# EAGLE library part 653111131822 (library Wire-to-Board)
WR-WTB 1.25mm SMT Male Horizontal Shrouded Header, 11 Pins=>Code : Con_WTB_1.25_PCB_SMT_653111131822 <http://katalog.we-online.de/media/thumbs2/eican/thb_Con_WTB_1.25_PCB_SMT_6531xx131822_pf2.jpg> Details see: http://katalog.we-online.de/en/em/653_1xx_131_822 Created 2014-06-06, Karrer Zheng 2014 (C) Würth Elektronik
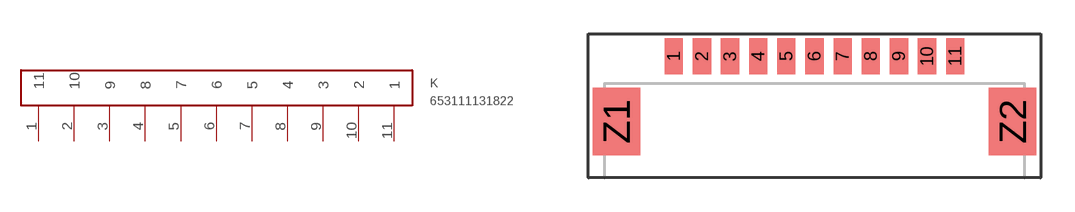
[diagram p68: symbol with the pads of 653111131822; footprint 653111131822]

Designator prefix K

## 653111131822  [653111131822]
1  11
2  10
3  9
4  8
5  7
6  6
7  5
8  4
9  3
10  2
11  1

## Footprint 653111131822 (pad centres in mm)
WR-WTB 1.25mm SMT Male Horizontal Shrouded Header, 11 Pins
smd 0.81 x 1.6: 1 -0.625,0; 2 0.625,0; 3 1.875,0; 4 3.125,0; 5 4.375,0; 6 5.625,0; 7 6.875,0; 8 8.125,0; 9 9.375,0; 10 10.625,0; 11 11.875,0
smd 2.1 x 3: Z1 -3.175,-2.9; Z2 14.425,-2.9